# Altium footprint library PCB2.PcbLib: 41 footprints (part 3 of 3)
Each footprint in its own frame and in the unit in brackets; x right, y up, seen from the top. Pads: shape width x height; smd on the part's side, far side on the other; paste and mask are expansions set on the pad; w line width, h text height; cw(c..) or ccw(c..) is an arc to the next point about the centre after c.
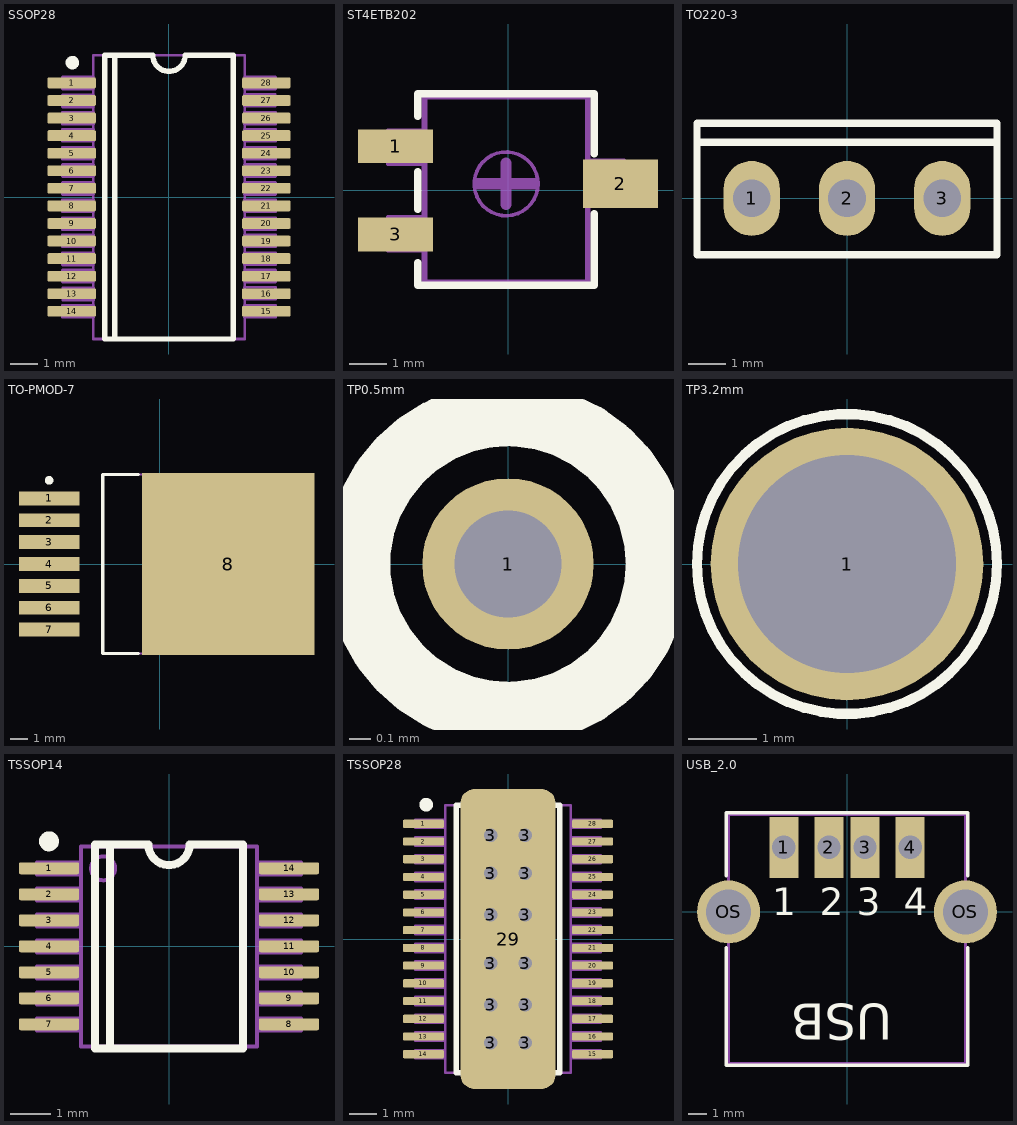
[diagram p2: the footprints below, top view; thin cyan lines are the x and y axes]

## SSOP28 [mm]
pads (28):
  rrect30% 1.8x0.4 smd: 1(-3.6,4.225) 2(-3.6,3.575) 3(-3.6,2.925) 4(-3.6,2.275) 5(-3.6,1.625) 6(-3.6,0.975) 7(-3.6,0.325) 8(-3.6,-0.325) 9(-3.6,-0.975) 10(-3.6,-1.625) 11(-3.6,-2.275) 12(-3.6,-2.925) 13(-3.6,-3.575) 14(-3.6,-4.225) 15(3.6,-4.225) 16(3.6,-3.575) 17(3.6,-2.925) 18(3.6,-2.275) 19(3.6,-1.625) 20(3.6,-0.975) 21(3.6,-0.325) 22(3.6,0.325) 23(3.6,0.975) 24(3.6,1.625) 25(3.6,2.275) 26(3.6,2.925) 27(3.6,3.575) 28(3.6,4.225)
Top Overlay:
  circle w0.25: c-3.575,4.975 r0.125
  lines w0.2: -2,-5.25 -2,5.25 ; -2.375,-5.25 -2.375,5.25 -0.6,5.25 ccw(c0,5.25) 0.6,5.25 2.375,5.25 2.375,-5.25 -2.375,-5.25
Mechanical 5:
  rectangle: -3.937,4 -2.8,4.445
  lines w0.1: -2.794,-4.445 -3.937,-4.445 -3.937,-4 -2.794,-4 ; -2.794,-3.143 -3.937,-3.143 -3.937,-2.698 -2.794,-2.698 ; -2.794,-2.508 -3.937,-2.508 -3.937,-2.063 -2.794,-2.063 ; -2.794,-1.842 -3.937,-1.842 -3.937,-1.397 -2.794,-1.397 ; -2.794,-1.207 -3.937,-1.207 -3.937,-0.762 -2.794,-0.762 ; -2.794,-0.54 -3.937,-0.54 -3.937,-0.095 -2.794,-0.095 ; -2.794,0.095 -3.937,0.095 -3.937,0.54 -2.794,0.54 ; -2.794,0.761 -3.937,0.761 -3.937,1.206 -2.794,1.206 ; -2.794,1.396 -3.937,1.396 -3.937,1.841 -2.794,1.841 ; -2.794,2.063 -3.937,2.063 -3.937,2.508 -2.794,2.508 ; -2.794,2.698 -3.937,2.698 -3.937,3.143 -2.794,3.143 ; -2.794,3.333 -3.937,3.333 -3.937,3.778 -2.794,3.778 ; -2.794,4 -3.937,4 -3.937,4.445 -2.794,4.445 ; -2.788,-3.81 -3.931,-3.81 -3.931,-3.365 -2.788,-3.365 ; 2.788,3.365 3.931,3.365 3.931,3.81 2.788,3.81 ; 2.794,-4.445 3.937,-4.445 3.937,-4 2.794,-4 ; 2.794,-3.778 3.937,-3.778 3.937,-3.333 2.794,-3.333 ; 2.794,-3.143 3.937,-3.143 3.937,-2.698 2.794,-2.698 ; 2.794,-2.508 3.937,-2.508 3.937,-2.063 2.794,-2.063 ; 2.794,-1.841 3.937,-1.841 3.937,-1.396 2.794,-1.396 ; 2.794,-1.206 3.937,-1.206 3.937,-0.761 2.794,-0.761 ; 2.794,-0.54 3.937,-0.54 3.937,-0.095 2.794,-0.095 ; 2.794,0.095 3.937,0.095 3.937,0.54 2.794,0.54 ; 2.794,0.762 3.937,0.762 3.937,1.207 2.794,1.207 ; 2.794,1.397 3.937,1.397 3.937,1.842 2.794,1.842 ; 2.794,2.063 3.937,2.063 3.937,2.508 2.794,2.508 ; 2.794,2.698 3.937,2.698 3.937,3.143 2.794,3.143 ; 2.794,4 3.937,4 3.937,4.445 2.794,4.445 ; -2.8,-5.25 2.8,-5.25 ; -2.8,-5.25 -2.8,5.25 ; -2.8,-5.25 -2.8,5.25 ; -2.8,-5.25 2.8,-5.25 ; -2.8,5.25 2.8,5.25 ; -2.8,5.25 2.8,5.25 ; 2.8,-5.25 2.8,5.25 ; 2.8,-5.25 2.8,5.25
  text ".designator" at 0.635,-3.302 h1.5
Mechanical 13:
  lines w0.1: -2.8,-5.25 2.8,-5.25 ; -2.8,-5.25 -2.8,5.25 ; -2.8,-5.25 -2.8,5.25 ; -2.8,-5.25 2.8,-5.25 ; -2.8,5.25 2.8,5.25 ; -2.8,5.25 2.8,5.25 ; 2.8,-5.25 2.8,5.25 ; 2.8,-5.25 2.8,5.25
3D body "User Library-ssop28_model.STEP": height 2.01, standoff 0.01, extent -3.9,-5.12 3.9,5.08

## ST4ETB202 [mm]
pads (3):
  rect 2x0.9 smd: 1(-3,1.175) 3(-3,-1.175)
  rect 2x1.3 smd: 2(3,0.175)
Top Overlay:
  lines w0.2: -2.4,-1.925 -2.4,-2.525 2.3,-2.525 2.3,-0.625 ; -2.4,-0.5 -2.4,0.5 ; -2.4,1.975 -2.4,2.575 2.3,2.575 2.3,0.975
Mechanical 5:
  rectangle: -3.2,0.7 -2.25,1.6
  lines w0.1: -2.3,-1.6 -3.2,-1.6 -3.2,-0.7 -2.3,-0.7 ; -2.3,0.7 -3.2,0.7 -3.2,1.6 -2.3,1.6 ; 2.2,-0.4 3.1,-0.4 3.1,0.8 2.2,0.8 ; -2.25,-2.425 2.15,-2.425 2.15,2.6 -2.25,2.6 -2.25,-2.425
  text ".designator" at -0.4,1.675 h0.7
Mechanical 13:
  circle w0.1: c-0.05,0.175 r0.85
  lines w0.1: -2.2,-1.6 -3.2,-1.6 -3.2,-0.7 -2.2,-0.7 ; -2.2,0.7 -3.2,0.7 -3.2,1.6 -2.2,1.6 ; 2.1,-0.4 3.1,-0.4 3.1,0.8 2.1,0.8 ; -2.2,-2.525 2.1,-2.525 2.1,2.475 -2.2,2.475 -2.2,-2.525
  lines w0.3: -0.8,0.175 0.7,0.175 ; -0.05,-0.375 -0.05,0.725

## TO220-3 [mm]
pads (3):
  oval 1.5x2 hole 1: 1(-2.54,0) 2(0,0) 3(2.54,0)
Top Overlay:
  lines w0.2: -4,1.5 4,1.5 ; -4,-1.5 -4,2 4,2 4,-1.5 -4,-1.5

## TO-PMOD-7 [mm]
pads (8):
  rect 3.5x0.8 smd: 1(-6.425,3.81) 2(-6.425,2.54) 3(-6.425,1.27) 4(-6.425,0) 5(-6.425,-1.27) 6(-6.425,-2.54) 7(-6.425,-3.81)
  rect 10x10.55 smd: 8(3.975,0)
Top Overlay:
  circle w0.25: c-6.425,4.86 r0.125
  lines w0.2: -1.25,-5.2 -3.3,-5.2 -3.3,5.2 -1.25,5.2
Mechanical 5:
  lines w0.1: 6.1,-5.2 6.1,5.2 ; 6.1,-5.2 -3.3,-5.2 -3.3,5.2 6.1,5.2 ; 6.1,-5.2 7.7,-5.2 ; 6.1,5.2 7.7,5.2 ; 7.7,-5.2 7.7,5.2 ; 7.7,-5.2 7.7,-5.2 ; 7.7,5.2 7.7,5.2
Mechanical 13:
  lines w0.1: 6.1,-5.2 7.7,-5.2 ; 6.1,-5.2 -3.3,-5.2 -3.3,5.2 6.1,5.2 ; 6.1,-5.2 6.1,5.2 ; 6.1,5.2 7.7,5.2 ; 7.7,-5.2 7.7,-5.2 ; 7.7,-5.2 7.7,5.2 ; 7.7,5.2 7.7,5.2
3D body "User Library-TO-PMOD-7-1.step": height 4.57, standoff 0, extent -6.45,-5.08 7.325,5.08

## TP0.5mm [mm]
pads (1):
  round 0.8 hole 0.5: 1(0,0)
Top Overlay:
  circle w0.3: c0,0 r0.7
Bottom Overlay:
  circle w0.3: c0,0 r0.7

## TP3.2mm [mm]
pads (1):
  round 4 hole 3.2: 1(0,0)
Top Overlay:
  circle w0.15: c0,0 r2.2
Bottom Overlay:
  circle w0.15: c0,0 r1.55

## TSSOP14 [mm]
pads (14):
  rrect30% 1.5x0.3 smd: 1(-3,1.95) 2(-3,1.3) 3(-3,0.65) 4(-3,0) 5(-3,-0.65) 6(-3,-1.3) 7(-3,-1.95) 8(3,-1.95) 9(3,-1.3) 10(3,-0.65) 11(3,0) 12(3,0.65) 13(3,1.3) 14(3,1.95)
Top Overlay:
  circle w0.25: c-3,2.625 r0.125
  lines w0.2: -1.475,-2.55 -1.475,2.55 ; -1.85,-2.55 1.85,-2.55 1.85,2.55 0.517,2.55 cw(c0,2.55) -0.517,2.55 -1.85,2.55 -1.85,-2.55
Mechanical 5:
  circle w0.1: c-1.65,1.95 r0.3
  lines w0.1: -2.2,-2.1 -3.3,-2.1 -3.3,-1.8 -2.2,-1.8 ; -2.2,-1.45 -3.3,-1.45 -3.3,-1.15 -2.2,-1.15 ; -2.2,-0.8 -3.3,-0.8 -3.3,-0.5 -2.2,-0.5 ; -2.2,-0.15 -3.3,-0.15 -3.3,0.15 -2.2,0.15 ; -2.2,0.5 -3.3,0.5 -3.3,0.8 -2.2,0.8 ; -2.2,1.15 -3.3,1.15 -3.3,1.45 -2.2,1.45 ; -2.2,1.8 -3.3,1.8 -3.3,2.1 -2.2,2.1 ; 2.2,-2.1 3.3,-2.1 3.3,-1.8 2.2,-1.8 ; 2.2,-1.45 3.3,-1.45 3.3,-1.15 2.2,-1.15 ; 2.2,-0.8 3.3,-0.8 3.3,-0.5 2.2,-0.5 ; 2.2,-0.15 3.3,-0.15 3.3,0.15 2.2,0.15 ; 2.2,0.5 3.3,0.5 3.3,0.8 2.2,0.8 ; 2.2,1.15 3.3,1.15 3.3,1.45 2.2,1.45 ; 2.2,1.8 3.3,1.8 3.3,2.1 2.2,2.1 ; -2.2,-2.5 2.2,-2.5 2.2,2.5 -2.2,2.5 -2.2,-2.5
  text ".designator" at -1.75,-0.4 h0.8
Mechanical 13:
  lines w0.1: -2.2,-2.1 -3.3,-2.1 -3.3,-1.8 -2.2,-1.8 ; -2.2,-1.45 -3.3,-1.45 -3.3,-1.15 -2.2,-1.15 ; -2.2,-0.8 -3.3,-0.8 -3.3,-0.5 -2.2,-0.5 ; -2.2,-0.15 -3.3,-0.15 -3.3,0.15 -2.2,0.15 ; -2.2,0.5 -3.3,0.5 -3.3,0.8 -2.2,0.8 ; -2.2,1.15 -3.3,1.15 -3.3,1.45 -2.2,1.45 ; -2.2,1.8 -3.3,1.8 -3.3,2.1 -2.2,2.1 ; 2.2,-2.1 3.3,-2.1 3.3,-1.8 2.2,-1.8 ; 2.2,-1.45 3.3,-1.45 3.3,-1.15 2.2,-1.15 ; 2.2,-0.8 3.3,-0.8 3.3,-0.5 2.2,-0.5 ; 2.2,-0.15 3.3,-0.15 3.3,0.15 2.2,0.15 ; 2.2,0.5 3.3,0.5 3.3,0.8 2.2,0.8 ; 2.2,1.15 3.3,1.15 3.3,1.45 2.2,1.45 ; 2.2,1.8 3.3,1.8 3.3,2.1 2.2,2.1 ; -2.2,-2.5 -2.2,2.5 2.2,2.5 2.2,-2.5 -2.2,-2.5
3D body: height 1.8, standoff 0, extent -1.85,-2.55 1.85,2.55

## TSSOP28 [mm]
pads (41):
  rrect30% 1.5x0.3 smd: 1(-3.1,4.225) 2(-3.1,3.575) 3(-3.1,2.925) 4(-3.1,2.275) 5(-3.1,1.625) 6(-3.1,0.975) 7(-3.1,0.325) 8(-3.1,-0.325) 9(-3.1,-0.975) 10(-3.1,-1.625) 11(-3.1,-2.275) 12(-3.1,-2.925) 13(-3.1,-3.575) 14(-3.1,-4.225) 15(3.1,-4.225) 16(3.1,-3.575) 17(3.1,-2.925) 18(3.1,-2.275) 19(3.1,-1.625) 20(3.1,-0.975) 21(3.1,-0.325) 22(3.1,0.325) 23(3.1,0.975) 24(3.1,1.625) 25(3.1,2.275) 26(3.1,2.925) 27(3.1,3.575) 28(3.1,4.225)
  round 0.8 hole 0.5: 3(-0.635,-3.81) 3(-0.635,-2.413) 3(-0.635,-0.889) 3(-0.635,0.889) 3(-0.635,2.413) 3(-0.635,3.81) 3(0.635,-3.81) 3(0.635,-2.413) 3(0.635,-0.889) 3(0.635,0.889) 3(0.635,2.413) 3(0.635,3.81)
  rrect30% 3.5x11 smd: 29(0,0)
Top Overlay:
  circle w0.25: c-3,4.925 r0.125
  lines w0.2: -1.475,-4.9 -1.475,4.9 ; -1.9,-4.9 -1.9,4.9 -0.517,4.9 ccw(c0,4.9) 0.517,4.9 1.9,4.9 1.9,-4.9 -1.9,-4.9
Mechanical 5:
  rectangle: -3.4,4.075 -2.3,4.375
  lines w0.1: -2.3,-4.375 -3.4,-4.375 -3.4,-4.075 -2.3,-4.075 ; -2.3,-3.725 -3.4,-3.725 -3.4,-3.425 -2.3,-3.425 ; -2.3,-3.075 -3.4,-3.075 -3.4,-2.775 -2.3,-2.775 ; -2.3,-2.425 -3.4,-2.425 -3.4,-2.125 -2.3,-2.125 ; -2.3,-1.775 -3.4,-1.775 -3.4,-1.475 -2.3,-1.475 ; -2.3,-1.125 -3.4,-1.125 -3.4,-0.825 -2.3,-0.825 ; -2.3,-0.475 -3.4,-0.475 -3.4,-0.175 -2.3,-0.175 ; -2.3,0.175 -3.4,0.175 -3.4,0.475 -2.3,0.475 ; -2.3,0.825 -3.4,0.825 -3.4,1.125 -2.3,1.125 ; -2.3,1.475 -3.4,1.475 -3.4,1.775 -2.3,1.775 ; -2.3,2.125 -3.4,2.125 -3.4,2.425 -2.3,2.425 ; -2.3,2.775 -3.4,2.775 -3.4,3.075 -2.3,3.075 ; -2.3,3.425 -3.4,3.425 -3.4,3.725 -2.3,3.725 ; -2.3,4.075 -3.4,4.075 -3.4,4.375 -2.3,4.375 ; 2.3,-4.375 3.4,-4.375 3.4,-4.075 2.3,-4.075 ; 2.3,-3.725 3.4,-3.725 3.4,-3.425 2.3,-3.425 ; 2.3,-3.075 3.4,-3.075 3.4,-2.775 2.3,-2.775 ; 2.3,-2.425 3.4,-2.425 3.4,-2.125 2.3,-2.125 ; 2.3,-1.775 3.4,-1.775 3.4,-1.475 2.3,-1.475 ; 2.3,-1.125 3.4,-1.125 3.4,-0.825 2.3,-0.825 ; 2.3,-0.475 3.4,-0.475 3.4,-0.175 2.3,-0.175 ; 2.3,0.175 3.4,0.175 3.4,0.475 2.3,0.475 ; 2.3,0.825 3.4,0.825 3.4,1.125 2.3,1.125 ; 2.3,1.475 3.4,1.475 3.4,1.775 2.3,1.775 ; 2.3,2.125 3.4,2.125 3.4,2.425 2.3,2.425 ; 2.3,2.775 3.4,2.775 3.4,3.075 2.3,3.075 ; 2.3,3.425 3.4,3.425 3.4,3.725 2.3,3.725 ; 2.3,4.075 3.4,4.075 3.4,4.375 2.3,4.375 ; -2.3,-4.9 -2.3,4.9 2.3,4.9 2.3,-4.9 -2.3,-4.9
  text ".designator" at 0.635,-3.81 h1.5
3D body "User Library-PWP (R-PDSO-G28).STEP": height 1.2, standoff 0, extent -3.31,-4.9 3.31,4.9

## USB_2.0 [mm]
pads (6):
  rect 1.6x3.4 hole 1.3 square: 1(-3.5,3.58) 2(-1,3.58) 3(1,3.58) 4(3.5,3.58)
  round 3.5 hole 2.5: OS(-6.57,0) OS(6.57,0)
Top Overlay:
  lines w0.2: -6.7,-1.99 -6.7,-8.5 6.7,-8.5 6.7,-1.99 ; -6.7,2.01 -6.7,5.5 6.7,5.5 6.7,2.01
  text "4" at 3.15,-0.19 h1.52
  text "3" at 0.55,-0.19 h1.52
  text "2" at -1.5,-0.19 h1.52
  text "1" at -4.14,-0.19 h1.52
  text "USB" at 2.5,-5.1 h2
Mechanical 5:
  lines w0.15: -6.57,-8.4 6.57,-8.4 6.57,5.4 -6.57,5.4 -6.57,-8.4
Mechanical 13:
  lines w0.15: -6.57,-8.4 -6.57,5.4 6.57,5.4 6.57,-8.4 -6.57,-8.4